# Altium integrated library Common_Modules.IntLib: 13 symbols
Pins are listed as number, name and electrical type; pins without a type are passive.

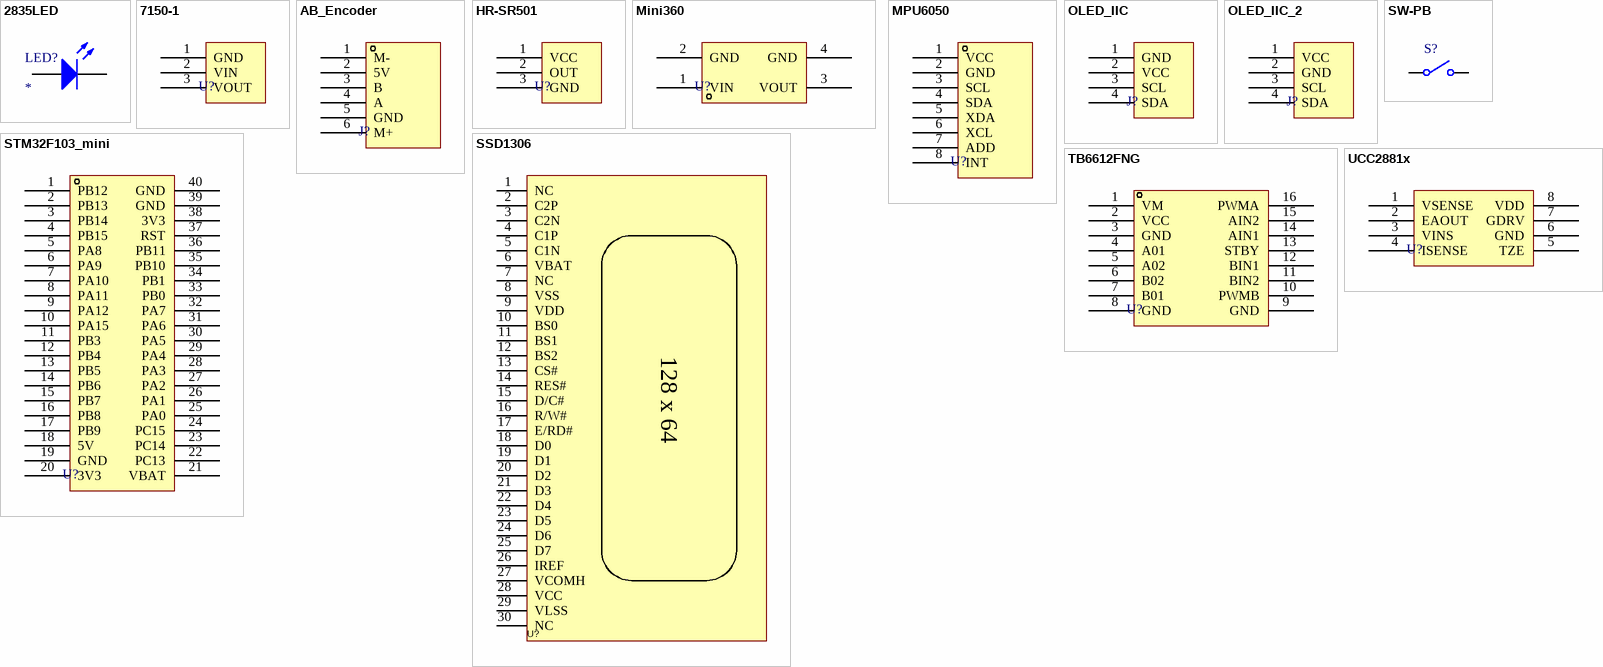
[diagram p0: symbols 2835LED to UCC2881x]

## 2835LED
designator LED?
footprint 2835LED
pins: 1 A, 2 K

## 7150-1
designator U?  (value not drawn)
footprint SOT-89
pins: 1 GND, 2 VIN, 3 VOUT

## AB_Encoder
designator J?  (value not drawn)
带编码器 TT马达
footprint AB_Encoder
pins: 1 M-, 2 5V, 3 B, 4 A, 5 GND, 6 M+

## HR-SR501
designator U?  (value not drawn)
人体红外感应模块
footprint HR-SR501 (人体红外感应模块)
pins: 1 VCC, 2 OUT, 3 GND

## Mini360
designator U?  (value not drawn)
超小体积DC-DC同步整流降压模块
footprint Mini360
pins: 1 VIN, 2 GND, 3 VOUT, 4 GND

## MPU6050
designator U?  (value not drawn)
GY-521
footprint MPU6050 (GY-521)
pins: 1 VCC, 2 GND, 3 SCL, 4 SDA, 5 XDA, 6 XCL, 7 ADD, 8 INT

## OLED_IIC
designator J?  (value not drawn)
彩色屏或较新版
footprint OLED (0.96 IIC)
pins: 1 GND, 2 VCC, 3 SCL, 4 SDA

## OLED_IIC_2
designator J?  (value not drawn)
单色版
footprint HDR1X4
pins: 1 VCC, 2 GND, 3 SCL, 4 SDA

## SSD1306
designator U?, comment VG-2864KSWEG01  (value not drawn)
Manufacturer: WiseChip(智晶光电); Add into BOM: yes; Main Control Chip: SSD1306; Name: VG-2864KSWEG01; Symbol: VG-2864KSWEG01; Device: VG-2864KSWEG01; LCSC Part Name: 0.96”128x64白色 VG-2864KSWEG01; Supplier Part: C194313; Manufacturer Part: VG-2864KSWEG01; Supplier Footprint: -; JLCPCB Part Class: Extended Part; Datasheet: https://atta.szlcsc.com/upload/public/pdf/source/20190118/C194313_EB7CEF44C1C1CB8B071218A368D72B17.pdf; Supplier: LCSC; Convert to PCB: yes; Size: 0.96
3D model OLED_L26.7-W15.5-H1.4-0.96-30P-P0.70-12864
footprint SSD1306 (OLED_0.96-30P-P0.70-12864)
pins: 1 NC, 2 C2P, 3 C2N, 4 C1P, 5 C1N, 6 VBAT, 7 NC, 8 VSS, 9 VDD, 10 BS0, 11 BS1, 12 BS2, 13 CS#, 14 RES#, 15 D/C#, 16 R/W#, 17 E/RD#, 18 D0, 19 D1, 20 D2, 21 D3, 22 D4, 23 D5, 24 D6, 25 D7, 26 IREF, 27 VCOMH, 28 VCC, 29 VLSS, 30 NC
text: 128 x 64

## STM32F103_mini
designator U?  (value not drawn)
STM32F1最小系统板
footprint STM32F103_mini
pins: 1 PB12, 2 PB13, 3 PB14, 4 PB15, 5 PA8, 6 PA9, 7 PA10, 8 PA11, 9 PA12, 10 PA15, 11 PB3, 12 PB4, 13 PB5, 14 PB6, 15 PB7, 16 PB8, 17 PB9, 18 5V, 19 GND, 20 3V3, 21 VBAT, 22 PC13, 23 PC14, 24 PC15, 25 PA0, 26 PA1, 27 PA2, 28 PA3, 29 PA4, 30 PA5, 31 PA6, 32 PA7, 33 PB0, 34 PB1, 35 PB10, 36 PB11, 37 RST, 38 3V3, 39 GND, 40 GND

## SW-PB
designator S?
船型开关; Published: 24-Mar-1999; LatestRevisionDate: 17-Jul-2002; LatestRevisionNote: Re-released for DXP Platform.; PackageReference: SPST-2; Publisher: Altium Limited; PackageDescription: Switch; 2 Leads
footprint SW-PB (船型开关)
pins: 1 COMMON, 2 NO

## TB6612FNG
designator U?  (value not drawn)
HW-166
footprint TB6612FNG (HW-166)
pins: 1 VM, 2 VCC, 3 GND, 4 A01, 5 A02, 6 B02, 7 B01, 8 GND, 9 GND, 10 PWMB, 11 BIN2, 12 BIN1, 13 STBY, 14 AIN1, 15 AIN2, 16 PWMA

## UCC2881x
designator U?  (value not drawn)
footprint SOP8
pins: 1 VSENSE, 2 EAOUT, 3 VINS, 4 ISENSE, 5 TZE, 6 GND, 7 GDRV, 8 VDD